# Altium footprint library SnapEDApcb.PcbLib: 25 footprints (part 1 of 2)
Each footprint in its own frame and in the unit in brackets; x right, y up, seen from the top. Pads: shape width x height; smd on the part's side, far side on the other; paste and mask are expansions set on the pad; w line width, h text height; cw(c..) or ccw(c..) is an arc to the next point about the centre after c.
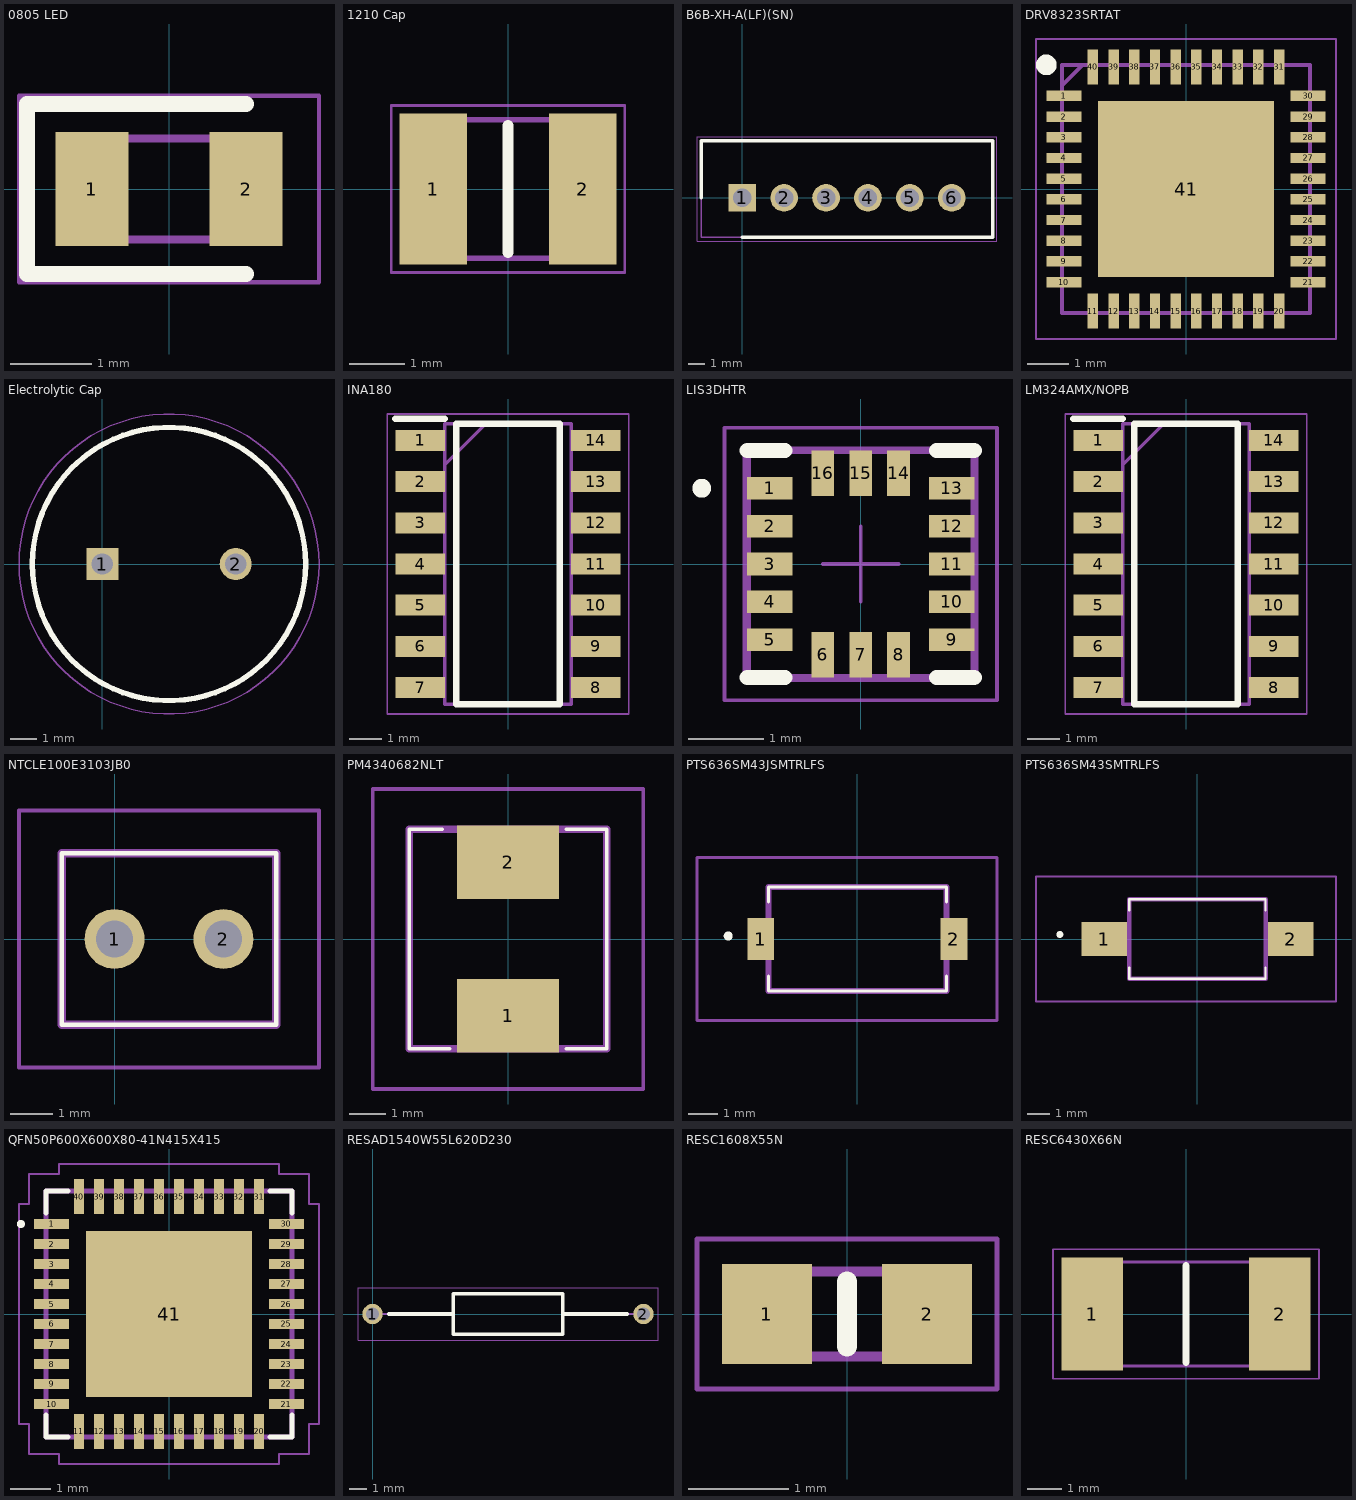
[diagram p0: the footprints below, top view; thin cyan lines are the x and y axes]

## 0805 LED [mm]
pads (2):
  rect 0.9x1.4 smd: 1(-0.95,0) 2(0.95,0)
Top Overlay:
  lines w0.2: 0.95,-1.05 -1.75,-1.05 -1.75,1.05 0.95,1.05
Mechanical 13:
  lines w0.1: -1,0.208 -0.583,0.625 ; -1,-0.625 1,-0.625 1,0.625 -1,0.625 -1,-0.625
Mechanical 15:
  lines w0.05: -1.85,-1.15 1.85,-1.15 1.85,1.15 -1.85,1.15 -1.85,-1.15

## 1210 Cap [mm]
pads (2):
  rect 1.22x2.72 smd: 1(-1.35,0) 2(1.35,0)
Top Overlay:
  lines w0.2: 0,-1.15 0,1.15
Mechanical 13:
  lines w0.1: -1.6,-1.25 1.6,-1.25 1.6,1.25 -1.6,1.25 -1.6,-1.25
Mechanical 15:
  lines w0.05: -2.11,-1.51 2.11,-1.51 2.11,1.51 -2.11,1.51 -2.11,-1.51
3D body "HMK325C7475KN-TE.stp": height 2.1, standoff 0, extent -1.6,-1.25 1.6,1.25

## B6B-XH-A(LF)(SN) [mm]
pads (6):
  rect 1.65x1.65 hole 1.1: 1(0,0)
  round 1.65 hole 1.1: 2(2.5,0) 3(5,0) 4(7.5,0) 5(10,0) 6(12.5,0)
Top Overlay:
  lines w0.2: -2.45,0 -2.45,3.4 14.95,3.4 14.95,-2.35 0,-2.35
Mechanical 13:
  lines w0.1: -2.45,-2.35 14.95,-2.35 14.95,3.4 -2.45,3.4 -2.45,-2.35
Mechanical 15:
  lines w0.05: -2.7,-2.6 15.2,-2.6 15.2,3.65 -2.7,3.65 -2.7,-2.6
3D body "B6B-XH-A_LF__SN_.stp": height 7, standoff -3.4, extent -2.45,-2.875 14.95,2.875

## DRV8323SRTAT [mm]
pads (41):
  rect 0.85x0.25 smd: 1(-2.95,2.25) 2(-2.95,1.75) 3(-2.95,1.25) 4(-2.95,0.75) 5(-2.95,0.25) 6(-2.95,-0.25) 7(-2.95,-0.75) 8(-2.95,-1.25) 9(-2.95,-1.75) 10(-2.95,-2.25) 21(2.95,-2.25) 22(2.95,-1.75) 23(2.95,-1.25) 24(2.95,-0.75) 25(2.95,-0.25) 26(2.95,0.25) 27(2.95,0.75) 28(2.95,1.25) 29(2.95,1.75) 30(2.95,2.25)
  rect 0.25x0.85 smd: 11(-2.25,-2.95) 12(-1.75,-2.95) 13(-1.25,-2.95) 14(-0.75,-2.95) 15(-0.25,-2.95) 16(0.25,-2.95) 17(0.75,-2.95) 18(1.25,-2.95) 19(1.75,-2.95) 20(2.25,-2.95) 31(2.25,2.95) 32(1.75,2.95) 33(1.25,2.95) 34(0.75,2.95) 35(0.25,2.95) 36(-0.25,2.95) 37(-0.75,2.95) 38(-1.25,2.95) 39(-1.75,2.95) 40(-2.25,2.95)
  rect 4.25x4.25 smd: 41(0,0)
Top Overlay:
  circle w0.25: c-3.375,3 r0.125
Mechanical 13:
  lines w0.1: -3,2.5 -2.5,3 ; -3,-3 -3,3 3,3 3,-3 -3,-3
Mechanical 15:
  lines w0.05: -3.625,-3.625 -3.625,3.625 3.625,3.625 3.625,-3.625 -3.625,-3.625
3D body "DRV8323SRTAT.stp": height 0.8, standoff 0, extent -3.05,-3.05 3.05,3.05

## Electrolytic Cap [mm]
pads (2):
  rect 1.2x1.2 hole 0.8: 1(0,0)
  round 1.2 hole 0.8: 2(5,0)
Top Overlay:
  circle w0.2: c2.5,0 r5.125
Mechanical 13:
  circle w0.1: c2.5,0 r5.125
Mechanical 15:
  circle w0.05: c2.5,0 r5.625
3D body "100ZLH100MEFC10X20.stp": height 22, standoff -10, extent -2.75,-5.247 7.75,5.247

## INA180 [mm]
pads (14):
  rect 1.525x0.65 smd: 1(-2.712,3.81) 2(-2.712,2.54) 3(-2.712,1.27) 4(-2.712,0) 5(-2.712,-1.27) 6(-2.712,-2.54) 7(-2.712,-3.81) 8(2.712,-3.81) 9(2.712,-2.54) 10(2.712,-1.27) 11(2.712,0) 12(2.712,1.27) 13(2.712,2.54) 14(2.712,3.81)
Top Overlay:
  lines w0.2: -3.475,4.485 -1.95,4.485 ; -1.6,-4.325 -1.6,4.325 1.6,4.325 1.6,-4.325 -1.6,-4.325
Mechanical 13:
  lines w0.1: -1.95,3.055 -0.68,4.325 ; -1.95,-4.325 -1.95,4.325 1.95,4.325 1.95,-4.325 -1.95,-4.325
Mechanical 15:
  lines w0.05: -3.725,-4.625 -3.725,4.625 3.725,4.625 3.725,-4.625 -3.725,-4.625
3D body "LM324AMX_NOPB.stp": height 1.75, standoff 0, extent -3,-4.325 3,4.325

## LIS3DHTR [mm]
pads (16):
  rect 0.6x0.3 smd: 1(-1.2,1) 2(-1.2,0.5) 3(-1.2,0) 4(-1.2,-0.5) 5(-1.2,-1) 9(1.2,-1) 10(1.2,-0.5) 11(1.2,0) 12(1.2,0.5) 13(1.2,1)
  rect 0.3x0.6 smd: 6(-0.5,-1.2) 7(0,-1.2) 8(0.5,-1.2) 14(0.5,1.2) 15(0,1.2) 16(-0.5,1.2)
Top Overlay:
  lines w0.125: -2.163,1.001 ccw(c-2.101,1.001) -2.038,1.001 ccw(c-2.101,1.001) -2.163,1.001
  lines w0.2: -1.5,-1.5 -1,-1.5 ; -1.5,1.5 -1,1.5 ; 1,-1.5 1.5,-1.5 ; 1,1.5 1.5,1.5
Mechanical 13:
  lines w0.1: -1.5,-1.5 1.5,-1.5 1.5,1.5 -1.5,1.5 -1.5,-1.5
Mechanical 15:
  lines w0.001: -1.55,-1.55 1.55,-1.55 1.55,1.55 -1.55,1.55 -1.55,-1.55
  lines w0.05: -0.5,0 0.5,0 ; 0,-0.5 0,0.5 ; -1.8,-1.8 1.8,-1.8 1.8,1.8 -1.8,1.8 -1.8,-1.8
3D body "LIS3DHTR.stp": height 1.1, standoff 0, extent -1.5,-1.5 1.5,1.5

## LM324AMX/NOPB [mm]
pads (14):
  rect 1.525x0.65 smd: 1(-2.712,3.81) 2(-2.712,2.54) 3(-2.712,1.27) 4(-2.712,0) 5(-2.712,-1.27) 6(-2.712,-2.54) 7(-2.712,-3.81) 8(2.712,-3.81) 9(2.712,-2.54) 10(2.712,-1.27) 11(2.712,0) 12(2.712,1.27) 13(2.712,2.54) 14(2.712,3.81)
Top Overlay:
  lines w0.2: -3.475,4.485 -1.95,4.485 ; -1.6,-4.325 1.6,-4.325 1.6,4.325 -1.6,4.325 -1.6,-4.325
Mechanical 13:
  lines w0.1: -1.95,3.055 -0.68,4.325 ; -1.95,-4.325 1.95,-4.325 1.95,4.325 -1.95,4.325 -1.95,-4.325
Mechanical 15:
  lines w0.05: -3.725,-4.625 3.725,-4.625 3.725,4.625 -3.725,4.625 -3.725,-4.625
3D body "LM324AMX_NOPB.stp": height 1.75, standoff 0, extent -3,-4.325 3,4.325

## NTCLE100E3103JB0 [mil]
pads (2):
  round 55 hole 33.86: 1(0,0) 2(100,0)
Top Overlay:
  lines w3.94: -48.43,-78.74 -48.43,78.74 148.43,78.74 148.43,-78.74 -48.43,-78.74
Mechanical 13:
  lines w7.87: -48.43,-78.74 -48.43,78.74 148.43,78.74 148.43,-78.74 -48.43,-78.74
Mechanical 15:
  lines w3.94: -87.8,-118.11 -87.8,118.11 187.8,118.11 187.8,-118.11 -87.8,-118.11
3D body "NTCLE100E3103JB0.stp": height 397.64, standoff -196.85, extent -48.43,-78.74 148.43,78.74

## PM4340682NLT [mm]
pads (2):
  rect 2.8x2 smd: 1(0,-2.1) 2(0,2.1)
Top Overlay:
  lines w0.1: -1.8,3 -2.7,3 -2.7,-3 -1.6,-3 ; 1.6,-3 2.7,-3 2.7,3 1.6,3
Mechanical 13:
  lines w0.2: -2.7,-3 -2.7,3 2.7,3 2.7,-3 -2.7,-3
Mechanical 15:
  lines w0.1: -3.7,-4.1 -3.7,4.1 3.7,4.1 3.7,-4.1 -3.7,-4.1
3D body "PM4340.682NLT.stp": height 2.1, standoff 0, extent -2.7,-3 2.7,3

## PTS636SM43JSMTRLFS [mm]
pads (2):
  rect 0.9x1.4 smd: 1(-3.25,0) 2(3.25,0)
Top Overlay:
  lines w0.1: -3,-1.75 3,-1.75 ; -3,-1.75 3,-1.75 ; -3,-1.75 -3,-1.25 -3,-1.75 ; -3,1.75 3,1.75 ; -3,1.75 3,1.75 ; -3,1.75 -3,1.25 -3,1.75 ; 3,-1.75 3,-1.25 3,-1.75 ; 3,1.75 3,1.25 3,1.75
  lines w0.2: -4.4,0.1 ccw(c-4.35,0.1) -4.3,0.1 ; -4.4,0.1 cw(c-4.35,0.1) -4.3,0.1 ; -4.4,0.1 ccw(c-4.35,0.1) -4.3,0.1
Mechanical 13:
  lines w0.2: -3,-1.75 -3,1.75 3,1.75 3,-1.75 -3,-1.75
Mechanical 15:
  lines w0.1: -5.4,-2.75 -5.4,2.75 4.7,2.75 4.7,-2.75 -5.4,-2.75
3D body "PTS636_SM43J_SMTR_LFS.stp": height 4.4, standoff 0, extent -3.61,-1.75 3.61,1.75

## PTS636SM43SMTRLFS [mm]
pads (2):
  rect 2x1.5 smd: 1(-4.1,0) 2(4.1,0)
Top Overlay:
  lines w0.1: -3,-1.75 -3,-1.25 -3,-1.75 ; -3,-1.75 3,-1.75 ; -3,-1.75 3,-1.75 ; -3,1.75 -3,1.25 -3,1.75 ; -3,1.75 3,1.75 ; -3,1.75 3,1.75 ; 3,-1.75 3,-1.25 3,-1.75 ; 3,1.75 3,1.25 3,1.75
  lines w0.2: -6.1,0.2 ccw(c-6.05,0.2) -6,0.2 ; -6.1,0.2 cw(c-6.05,0.2) -6,0.2 ; -6.1,0.2 ccw(c-6.05,0.2) -6,0.2
Mechanical 13:
  lines w0.2: -3,-1.75 3,-1.75 3,1.75 -3,1.75 -3,-1.75
Mechanical 15:
  lines w0.1: -7.1,-2.75 6.1,-2.75 6.1,2.75 -7.1,2.75 -7.1,-2.75

## QFN50P600X600X80-41N415X415 [mm]
pads (41):
  rrect14% 0.88x0.26 smd: 1(-2.935,2.25) 2(-2.935,1.75) 3(-2.935,1.25) 4(-2.935,0.75) 5(-2.935,0.25) 6(-2.935,-0.25) 7(-2.935,-0.75) 8(-2.935,-1.25) 9(-2.935,-1.75) 10(-2.935,-2.25) 21(2.935,-2.25) 22(2.935,-1.75) 23(2.935,-1.25) 24(2.935,-0.75) 25(2.935,-0.25) 26(2.935,0.25) 27(2.935,0.75) 28(2.935,1.25) 29(2.935,1.75) 30(2.935,2.25)
  rrect14% 0.26x0.88 smd: 11(-2.25,-2.935) 12(-1.75,-2.935) 13(-1.25,-2.935) 14(-0.75,-2.935) 15(-0.25,-2.935) 16(0.25,-2.935) 17(0.75,-2.935) 18(1.25,-2.935) 19(1.75,-2.935) 20(2.25,-2.935) 31(2.25,2.935) 32(1.75,2.935) 33(1.25,2.935) 34(0.75,2.935) 35(0.25,2.935) 36(-0.25,2.935) 37(-0.75,2.935) 38(-1.25,2.935) 39(-1.75,2.935) 40(-2.25,2.935)
  rect 4.15x4.15 smd: 41(0,0)
Top Overlay:
  circle w0.1: c-3.7,2.25 r0.05
  lines w0.127: -3.08,-2.526 -3.08,-3.08 -2.526,-3.08 ; -3.08,2.526 -3.08,3.08 -2.526,3.08 ; 2.526,-3.08 3.08,-3.08 3.08,-2.526 ; 2.526,3.08 3.08,3.08 3.08,2.526
Mechanical 13:
  lines w0.127: -3.08,-3.08 -3.08,3.08 3.08,3.08 3.08,-3.08 -3.08,-3.08
Mechanical 15:
  lines w0.05: -3.75,-2.75 -3.75,2.75 -3.5,2.75 -3.5,3.5 -2.75,3.5 -2.75,3.75 2.75,3.75 2.75,3.5 3.5,3.5 3.5,2.75 3.75,2.75 3.75,-2.75 3.5,-2.75 3.5,-3.5 2.75,-3.5 2.75,-3.75 -2.75,-3.75 -2.75,-3.5 -3.5,-3.5 -3.5,-2.75 -3.75,-2.75

## RESAD1540W55L620D230 [mm]
pads (2):
  round 1.15 hole 0.75: 1(0,0) 2(15.4,0)
Top Overlay:
  lines w0.2: 0.925,0 4.6,0 ; 10.8,0 14.475,0 ; 4.6,-1.15 10.8,-1.15 10.8,1.15 4.6,1.15 4.6,-1.15
Mechanical 13:
  lines w0.1: 0,0 4.6,0 ; 10.8,0 15.4,0 ; 4.6,-1.15 10.8,-1.15 10.8,1.15 4.6,1.15 4.6,-1.15
Mechanical 15:
  lines w0.05: -0.825,-1.5 16.225,-1.5 16.225,1.5 -0.825,1.5 -0.825,-1.5
3D body "LR1F2K2.stp": height 5.4, standoff -5.4, extent -1.15,-1.15 1.15,1.15

## RESC1608X55N [mm]
pads (2):
  rect 0.9x1 smd: 1(-0.8,0) 2(0.8,0)
Top Overlay:
  lines w0.2: 0,-0.325 0,0.325
Mechanical 13:
  lines w0.1: -0.8,-0.425 0.8,-0.425 0.8,0.425 -0.8,0.425 -0.8,-0.425
Mechanical 15:
  lines w0.05: -1.5,-0.75 1.5,-0.75 1.5,0.75 -1.5,0.75 -1.5,-0.75
3D body "ERJ-3GEYJ103V.stp": height 0.55, standoff 0, extent -0.8,-0.425 0.8,0.425

## RESC6430X66N [mm]
pads (2):
  rect 1.8x3.3 smd: 1(-2.75,0) 2(2.75,0)
Top Overlay:
  lines w0.2: 0,-1.425 0,1.425
Mechanical 13:
  lines w0.1: -3.175,-1.525 -3.175,1.525 3.175,1.525 3.175,-1.525 -3.175,-1.525
Mechanical 15:
  lines w0.05: -3.9,-1.9 -3.9,1.9 3.9,1.9 3.9,-1.9 -3.9,-1.9
3D body "PCS2512FR0050ET.stp": height 0.66, standoff 0, extent -3.175,-1.525 3.175,1.525